# EAGLE library part CRA06S-8 (library KwanSystems)
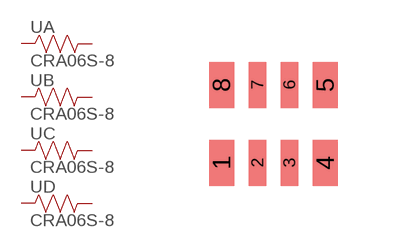
[diagram p4: symbol with the pads of CRA06; footprint CRA06]

Designator prefix -; gates A=RESISTOR B=RESISTOR C=RESISTOR D=RESISTOR

## CRA06S-8  [CRA06]
1  A:1  pas
2  B:1  pas
3  C:1  pas
4  D:1  pas
5  D:2  pas
6  C:2  pas
7  B:2  pas
8  A:2  pas

## Footprint CRA06 (pad centres in mm)
smd 0.63 x 1.15: 1 -1.295,-0.975; 4 1.295,-0.975; 5 1.295,0.975; 8 -1.295,0.975
smd 0.44 x 1.15: 2 -0.4,-0.975; 3 0.4,-0.975; 6 0.4,0.975; 7 -0.4,0.975